# Altium schematic symbol library XFR,Flyback,WURTH_750032050.Schlib: 1 symbol
Pins are listed as number, name and electrical type; pins without a type are passive.

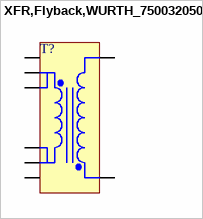
[diagram p0: symbol XFR,Flyback,WURTH_750032050]

## XFR,Flyback,WURTH_750032050
designator T?
pins: 1 Sec+, 2 NC, 3 Pri-, 4 Pri-, 5 Pri+, 6 Pri+, 7 NC, 8 Sec-